# EAGLE library part ESP32-DEVKIT (library Hanna.Gościniak)
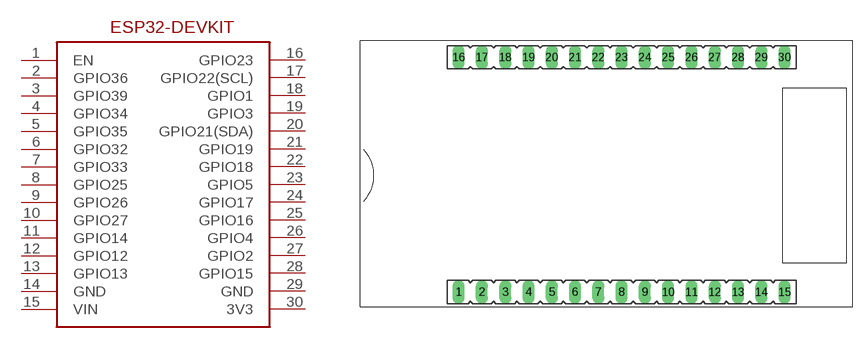
[diagram p0: symbol with the pads of ESP32-DEVKIT; footprint ESP32-DEVKIT]

Designator prefix -

## ESP32-DEVKIT  [ESP32-DEVKIT]
1  EN
2  GPIO36
3  GPIO39
4  GPIO34
5  GPIO35
6  GPIO32
7  GPIO33
8  GPIO25
9  GPIO26
10  GPIO27
11  GPIO14
12  GPIO12
13  GPIO13
14  GND  pwr
15  VIN  pwr
16  GPIO23
17  GPIO22(SCL)
18  GPIO1
19  GPIO3
20  GPIO21(SDA)
21  GPIO19
22  GPIO18
23  GPIO5
24  GPIO17
25  GPIO16
26  GPIO4
27  GPIO2
28  GPIO15
29  GND  pwr
30  3V3  pwr

## Footprint ESP32-DEVKIT (pad centres in mm)
drill 0.813 long: 1 -15.64,-12.73; 2 -13.1,-12.73; 3 -10.56,-12.73; 4 -8.02,-12.73; 5 -5.48,-12.73; 6 -2.94,-12.73; 7 -0.4,-12.73; 8 2.14,-12.73; 9 4.68,-12.73; 10 7.22,-12.73; 11 9.76,-12.73; 12 12.3,-12.73; 13 14.84,-12.73; 14 17.38,-12.73; 15 19.92,-12.73; 16 -15.64,12.89; 17 -13.1,12.89; 18 -10.56,12.89; 19 -8.02,12.89; 20 -5.48,12.89; 21 -2.94,12.89; 22 -0.4,12.89; 23 2.14,12.89; 24 4.68,12.89; 25 7.22,12.89; 26 9.76,12.89; 27 12.3,12.89; 28 14.84,12.89; 29 17.38,12.89; 30 19.92,12.89